# Altium footprint library FYDP_library_pcb.PcbLib: 21 footprints (part 1 of 2)
Each footprint in its own frame and in the unit in brackets; x right, y up, seen from the top. Pads: shape width x height; smd on the part's side, far side on the other; paste and mask are expansions set on the pad; w line width, h text height; cw(c..) or ccw(c..) is an arc to the next point about the centre after c.
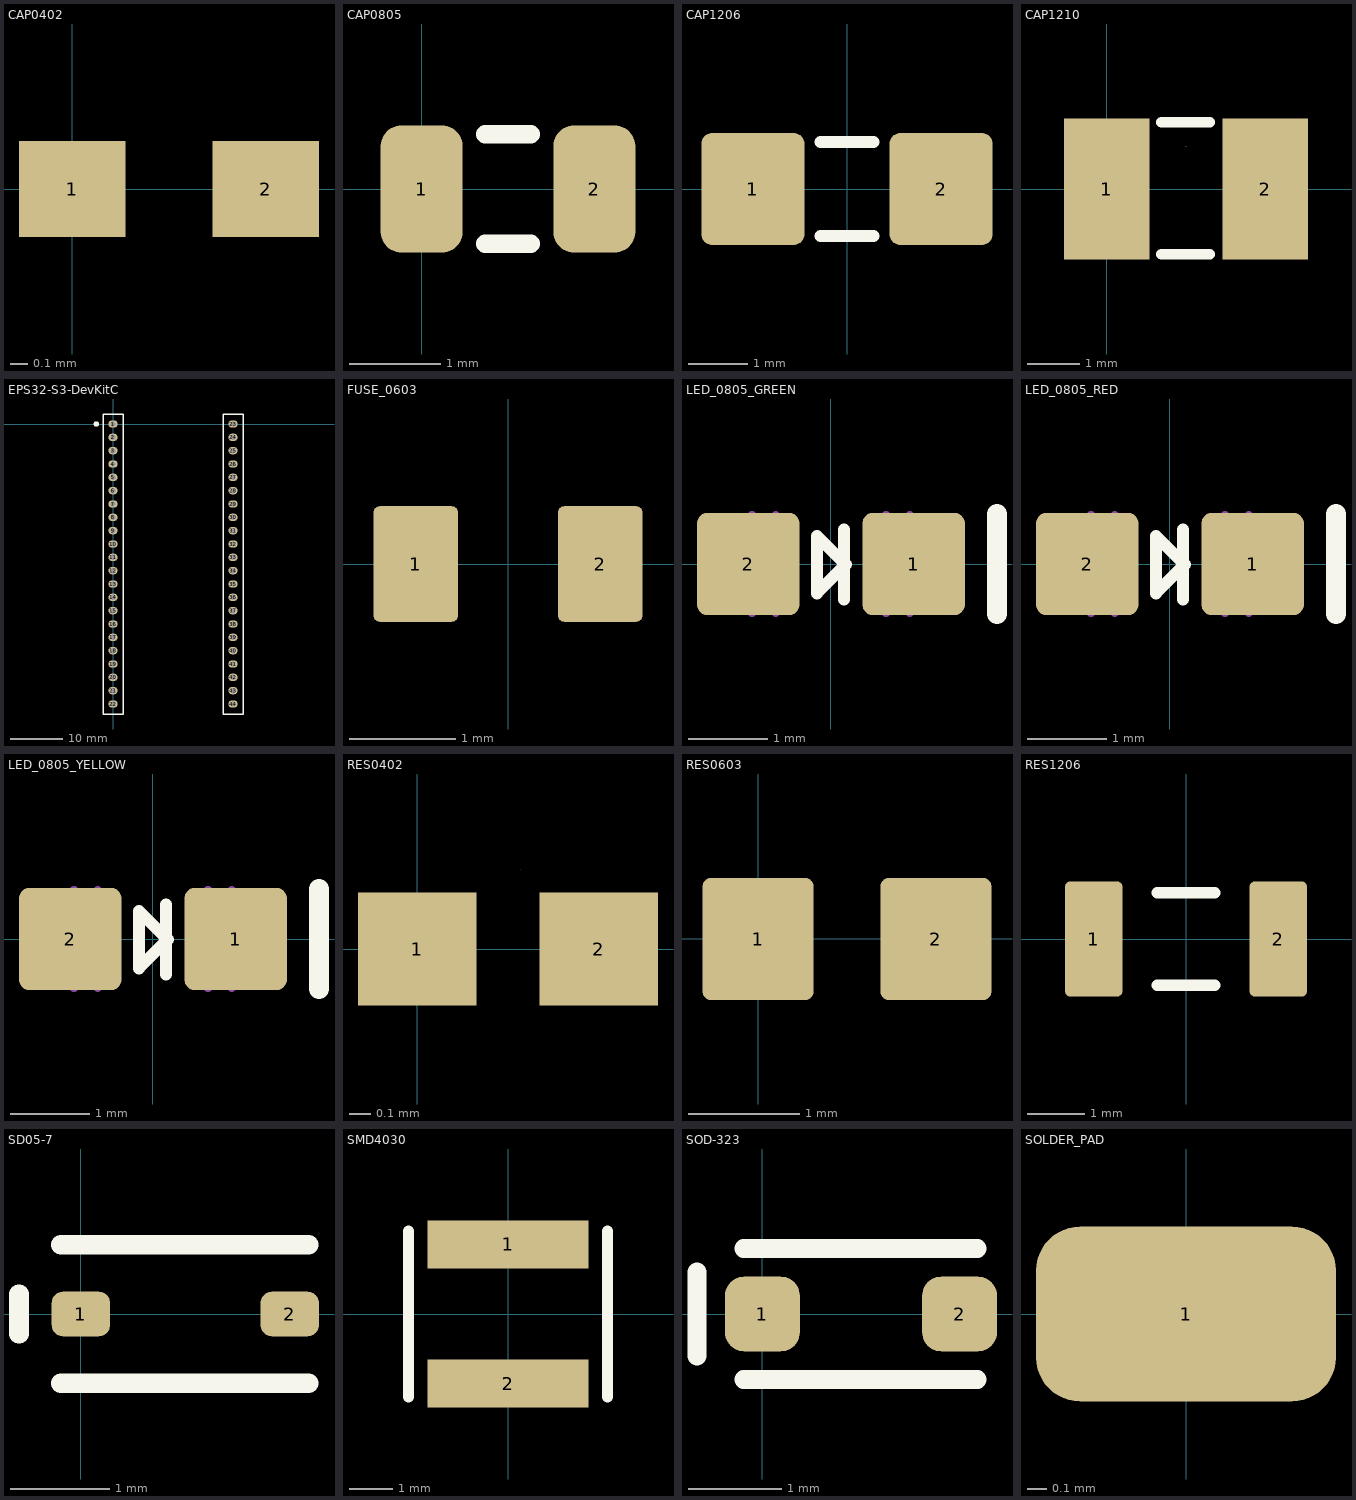
[diagram p0: the footprints below, top view; thin cyan lines are the x and y axes]

## CAP0402 [mm]
pads (2):
  rect 0.6x0.54 smd paste-100 mask+0.051: 1(0,0) 2(1.09,0)
Top Paste:
  region: 0.365,0.225 0.365,-0.225 0.295,-0.275 -0.185,-0.275 -0.235,-0.225 -0.235,0.225 -0.185,0.275 0.295,0.275
  region: 1.325,0.225 1.325,-0.225 1.275,-0.275 0.795,-0.275 0.725,-0.225 0.725,0.225 0.795,0.275 1.275,0.275
3D body "User Library-cap_0402.STEP": height 0.5, standoff 0, extent 0.059,-0.25 1.059,0.25

## CAP0805 [mm]
pads (2):
  rrect50% 0.9x1.4 smd: 1(0,0) 2(1.9,0)
Top Overlay:
  lines w0.203: 0.7,-0.6 1.2,-0.6 ; 0.7,0.6 1.2,0.6
3D body "User Library-cap_0805-1.STEP": height 1.2, standoff 0, extent -0.05,-0.6 1.95,0.6

## CAP1206 [mm] "Chip Capacitor, Body 3.2x1.6mm, Height 0.55mm, IPC Medium Density"
height 0.55
pads (2):
  rrect20% 1.75x1.9 smd: 1(-1.6,0) 2(1.6,0)
Top Overlay:
  lines w0.2: -0.45,-0.8 0.45,-0.8 ; -0.45,0.8 0.45,0.8
3D body "1206.stp": height 0.88, standoff 0, extent -1.7,-0.9 1.7,0.9

## CAP1210 [mm]
pads (2):
  rect 1.635x2.7 smd paste-100 mask+0.051: 1(0,0) 2(3.035,0)
Top Overlay:
  lines w0.203: 1.05,-1.25 1.975,-1.25 ; 1.05,1.275 1.975,1.275
Top Paste:
  region: 2.217,-1.25 2.217,-0.559 2.317,-0.459 2.673,-0.459 2.773,-0.359 2.773,0.359 2.673,0.459 2.317,0.459 2.217,0.559 2.217,1.25 2.317,1.35 3.752,1.35 3.852,1.25 3.852,-1.25 3.752,-1.35 2.317,-1.35
  region: 0.817,-1.25 0.817,-0.559 0.717,-0.459 0.362,-0.459 0.262,-0.359 0.262,0.359 0.362,0.459 0.717,0.459 0.817,0.559 0.817,1.25 0.717,1.35 -0.717,1.35 -0.817,1.25 -0.817,-1.25 -0.717,-1.35 0.717,-1.35
Mechanical 15:
  lines w0.003: 1.517,0.82 1.518,0.821
3D body "User Library-cap_1210.STEP": height 2.5, standoff 0, extent -0.076,-1.25 3.124,1.25

## EPS32-S3-DevKitC [mil]
pads (44):
  oval 70x55 hole 40: 1(0,0) 2(0,-100) 3(0,-200) 4(0,-300) 5(0,-400) 6(0,-500) 7(0,-600) 8(0,-700) 9(0,-800) 10(0,-900) 11(0,-1000) 12(0,-1100) 13(0,-1200) 14(0,-1300) 15(0,-1400) 16(0,-1500) 17(0,-1600) 18(0,-1700) 19(0,-1800) 20(0,-1900) 21(0,-2000) 22(0,-2100) 23(900,0) 24(900,-100) 25(900,-200) 26(900,-300) 27(900,-400) 28(900,-500) 29(900,-600) 30(900,-700) 31(900,-800) 32(900,-900) 33(900,-1000) 34(900,-1100) 35(900,-1200) 36(900,-1300) 37(900,-1400) 38(900,-1500) 39(900,-1600) 40(900,-1700) 41(900,-1800) 42(900,-1900) 43(900,-2000) 44(900,-2100)
Top Overlay:
  circle w20: c-125,0 r10
  lines w10: -75,-2175 75,-2175 75,75 -75,75 -75,-2175 ; 825,-2175 975,-2175 975,75 825,75 825,-2175

## FUSE_0603 [mm] "Chip Fuse, Body 1.6x0.81mm"
height 0.305
pads (2):
  rrect15% 0.8x1.09 smd: 1(-0.87,0) 2(0.87,0)
3D body "User Library-ptc06032-1.STEP": height 0.75, standoff 0, extent -0.8,-0.375 0.8,0.375

## LED_0805_GREEN [mm] "SMD, 2-Leads, Body 2x1.25mm"
height 0.8
pads (2):
  rrect20% 1.3x1.3 smd: 1(1.05,0) 2(-1.05,0)
Top Overlay:
  lines w0.152: -0.178,0.33 -0.178,-0.372 0.189,-0.005 ; -0.178,0.358 0.189,-0.009 ; 0.164,-0.448 0.164,0.436
  lines w0.254: 2.108,-0.635 2.108,0.635
Mechanical 13:
  lines w0.1: -1,-0.625 -1,0.625 ; -0.7,-0.625 -0.7,0.625 ; 0.7,-0.625 0.7,0.625 ; 1,-0.625 1,0.625
3D body "everlight-17-21-0805LED-GREEN.step": height 1.12, standoff 0.01, extent -1,-0.625 1,0.625

## LED_0805_RED [mm] "SMD, 2-Leads, Body 2x1.25mm"
height 0.8
pads (2):
  rrect20% 1.3x1.3 smd: 1(1.05,0) 2(-1.05,0)
Top Overlay:
  lines w0.152: -0.178,0.33 -0.178,-0.372 0.189,-0.005 ; -0.178,0.358 0.189,-0.009 ; 0.164,-0.448 0.164,0.436
  lines w0.254: 2.108,-0.635 2.108,0.635
Mechanical 13:
  lines w0.1: -1,-0.625 -1,0.625 ; -0.7,-0.625 -0.7,0.625 ; 0.7,-0.625 0.7,0.625 ; 1,-0.625 1,0.625
3D body "red led.step": height 1.12, standoff 0.01, extent -1,-0.625 1,0.625

## LED_0805_YELLOW [mm] "SMD, 2-Leads, Body 2x1.25mm"
height 0.8
pads (2):
  rrect20% 1.3x1.3 smd: 1(1.05,0) 2(-1.05,0)
Top Overlay:
  lines w0.152: -0.178,0.33 -0.178,-0.372 0.189,-0.005 ; -0.178,0.358 0.189,-0.009 ; 0.164,-0.448 0.164,0.436
  lines w0.254: 2.108,-0.635 2.108,0.635
Mechanical 13:
  lines w0.1: -1,-0.625 -1,0.625 ; -0.7,-0.625 -0.7,0.625 ; 0.7,-0.625 0.7,0.625 ; 1,-0.625 1,0.625
3D body "yellow led.step": height 1.12, standoff 0.01, extent -1,-0.625 1,0.625

## RES0402 [mm]
pads (2):
  rect 0.566x0.54 smd paste-100 mask+0.051: 1(0,0) 2(0.866,0)
Top Paste:
  region: 0.298,-0.23 0.298,0.23 0.258,0.27 -0.243,0.27 -0.283,0.23 -0.283,-0.23 -0.243,-0.27 0.258,-0.27
  region: 0.568,-0.23 0.568,0.23 0.608,0.27 1.108,0.27 1.148,0.23 1.148,-0.23 1.108,-0.27 0.608,-0.27
Mechanical 15:
  lines w0.003: 0.494,0.379 0.494,0.38
3D body "User Library-res0402-1.STEP": height 0.3, standoff 0, extent -0.068,-0.25 0.932,0.25

## RES0603 [mm]
pads (2):
  rrect15% 1x1.1 smd: 1(0,0) 2(1.6,0)
3D body "0603.step": height 0.46, standoff 0.01, extent 0,-0.4 1.6,0.4

## RES1206 [mm] "Chip Resistor, Body 3.2x1.6mm, IPC Medium Density"
height 0.75
pads (2):
  rrect20% 1x2 smd: 1(-1.6,0) 2(1.6,0)
Top Overlay:
  lines w0.2: -0.5,-0.8 0.5,-0.8 ; -0.5,0.8 0.5,0.8
3D body "1206 resistor.step": height 0.61, standoff 0.01, extent -1.6,-0.8 1.6,0.8

## SD05-7 [mm] "SOD-323"
pads (2):
  rrect50% 0.59x0.45 smd: 1(0,0) 2(2.11,0)
Top Overlay:
  lines w0.2: -0.625,-0.2 -0.625,0.2 ; -0.2,-0.7 2.3,-0.7 ; -0.2,0.7 2.3,0.7
3D body "User Library-SOD323.STEP": height 1, standoff 0.01, extent -0.2,-0.625 2.3,0.625

## SMD4030 [mm]
height 3
pads (2):
  rect 3.7x1.1 smd: 1(0,1.6) 2(0,-1.6)
Top Overlay:
  lines w0.254: -2.286,-1.905 -2.286,1.905 ; 2.286,-1.905 2.286,1.905
3D body "ASPI-4030S.STEP": height 3.01, standoff 0.01, extent -2,-2 2,2

## SOD-323 [mm] "SOD-323"
pads (2):
  rrect50% 0.8x0.8 smd: 1(0,0) 2(2.11,0)
Top Overlay:
  lines w0.2: -0.7,-0.45 -0.7,0.45 ; -0.2,-0.7 2.3,-0.7 ; -0.2,0.7 2.3,0.7
3D body "User Library-SOD323.STEP": height 1, standoff 0.01, extent -0.2,-0.625 2.3,0.625

## SOLDER_PAD [mil]
pads (1):
  rrect50% 60x35 smd: 1(0,0)